# EAGLE library part TJA1040T (library serial_interfaces)
1/1 CAN Transceiver SOIC-8_150mil CAN ICs ROHS
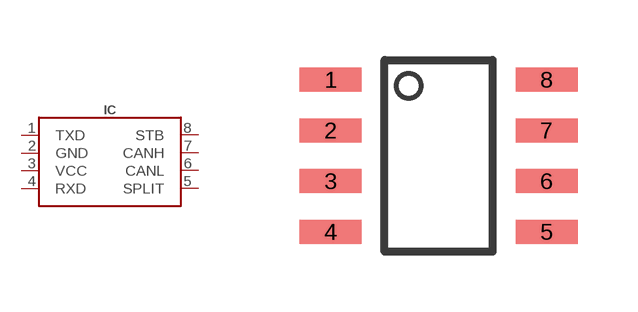
[diagram p12: symbol with the pads of SOIC8; footprint SOIC8]

Designator prefix IC

## TJA1040T (LCSC#: C6951; MANF: NXP Semicon; MANF#: TJA1040T/CM,118)  [SOIC8]
1  TXD
2  GND
3  VCC
4  RXD
5  SPLIT
6  CANL
7  CANH
8  STB

## Footprint SOIC8 (pad centres in mm)
https://www.ti.com/lit/ds/snvsaq5a/snvsaq5a.pdf?ts=1602424164509
smd 1.55 x 0.6: 1 -2.7,1.905; 2 -2.7,0.635; 3 -2.7,-0.635; 4 -2.7,-1.905; 5 2.7,-1.905; 6 2.7,-0.635; 7 2.7,0.635; 8 2.7,1.905